# Altium integrated library Linear Technology Power Management System Supervisor, Monitor and Control.IntLib: 1611 symbols (part 10 of 100)
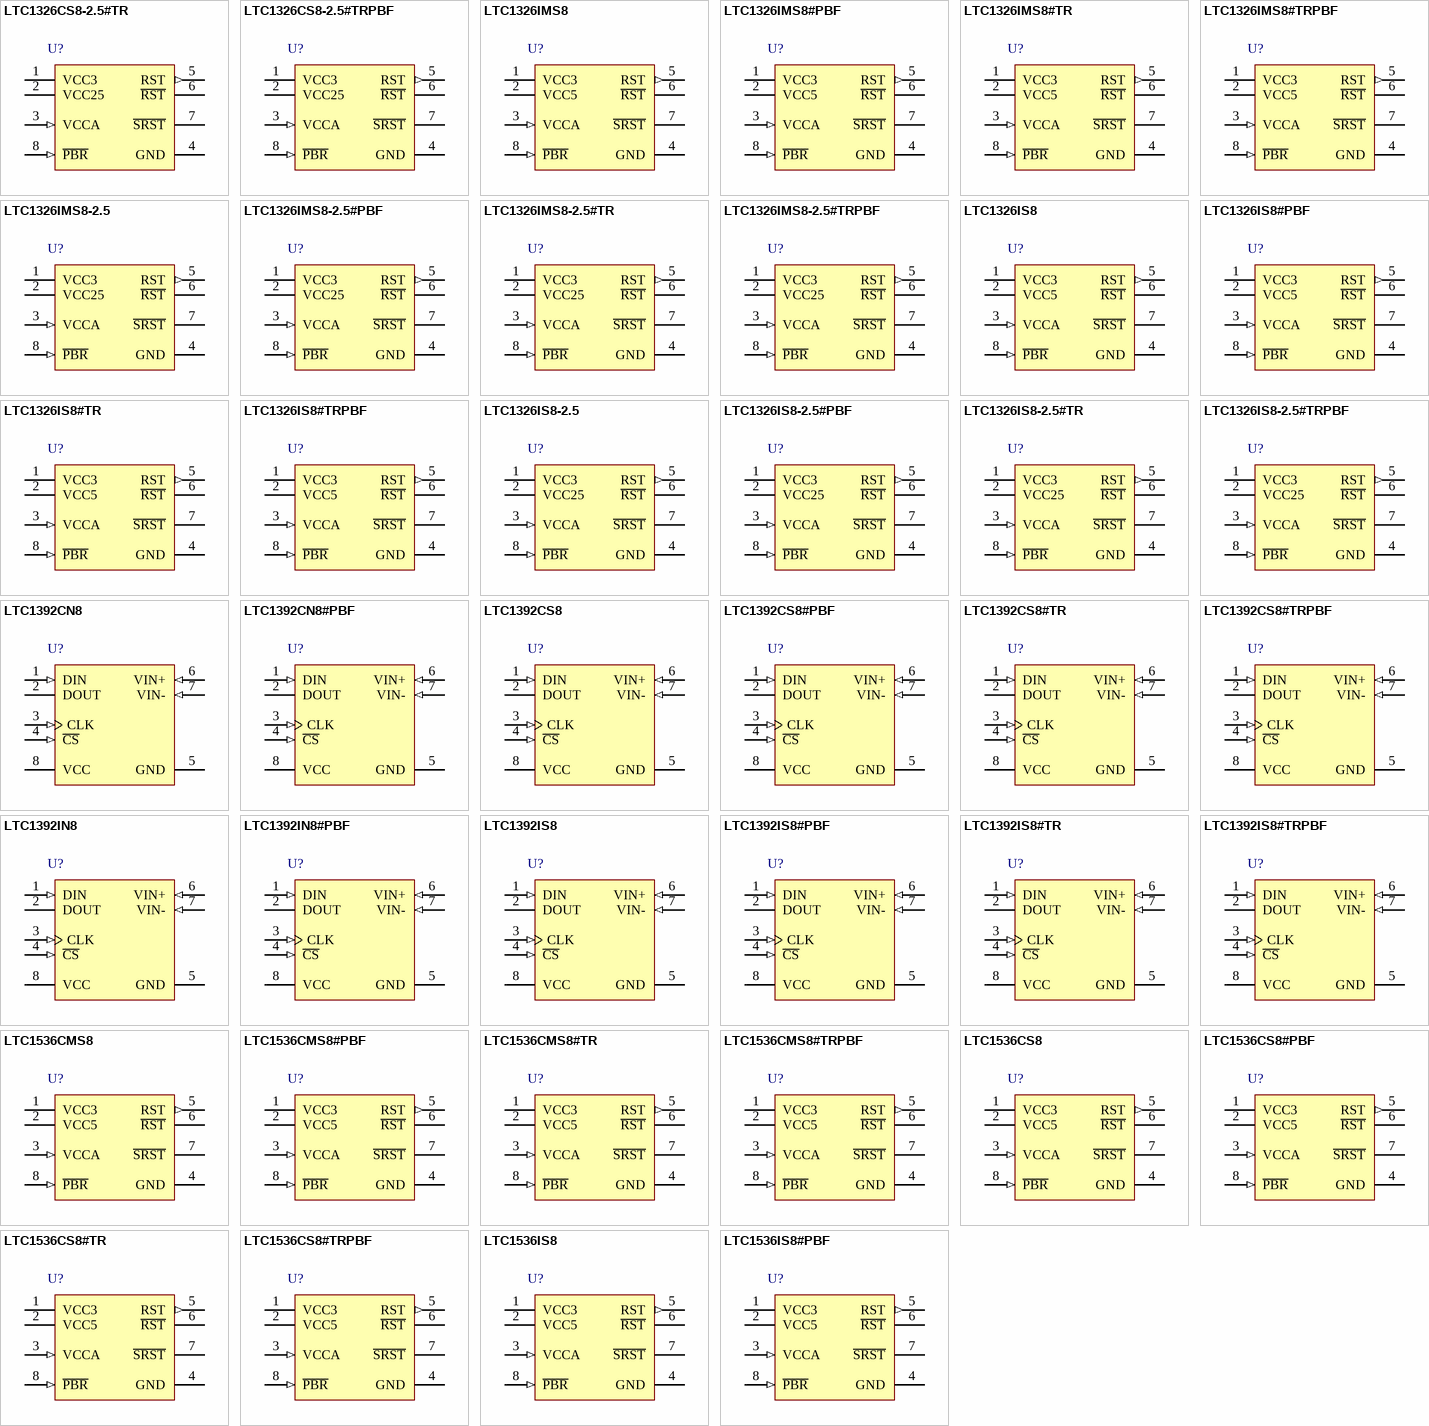
[diagram p54: symbols LTC1326CS8-2.5#TR to LTC1536IS8#PBF]

## LTC1326IS8-2.5
designator U?
Micropower Precision Triple Supply Monitor, 8-pin SOIC (S8-8), -40 to 85 degC; Manufacturer: Linear Technology; PartNumber: LTC1326IS8-2.5; Number of Supplies(#): 3; DatasheetVersion: Rev. C; PackageVersion: Rev. G, 03/2012; PackageReference: S8-8; PackageDescription: 8-Pin Plastic Small Outline (Narrow .150 Inch), Body 4.9 x 3.9 mm, Pitch 1.27 mm; Supplier 1: Digi-Key; Supplier Part Number 1: LTC1326IS8-2.5-ND; RoHS: FALSE; Mounting Technology: Surface Mount; ComponentLink1Description: Manufacturer URL; ComponentLink1URL: http://www.linear.com/; ComponentLink2Description: Datasheet; ComponentLink2URL: http://cds.linear.com/docs/en/datasheet/132625fc.pdf; ComponentLink3Description: Package Specification; ComponentLink3URL: http://cds.linear.com/docs/en/packaging/05081610_G_SO8.pdf
footprint LT-S8-8_N (SOIC, 8-Leads, Body 5x4mm, Pitch 1.27mm, IPC Medium Density)
footprint LT-S8-8_L (SOIC, 8-Leads, Body 5x4mm, Pitch 1.27mm, IPC High Density)
footprint LT-S8-8_M (SOIC, 8-Leads, Body 5x4mm, Pitch 1.27mm, IPC Low Density)
pins: 1 VCC3 (power) "3.3V Sense Input and Power Supply Pin for the IC. Bypass to ground with >= 0.1uF ceramic capacitor.", 2 VCC25 (power), 3 VCCA (in) "1V Sense, High Impedance Input. Can be used as a logic input with a 1V threshold. If unused, it can be tied to either VCC3 or VCC25.", 4 GND (power) "Ground.", 5 RST (out) "Reset Logic Output. Active high CMOS logic output, drives high to VCC3, buffered complement of R\S\T\. An external pull-down on the R\S\T\ pin will drive this pin high.", 6 ~{RST} (oc) "Reset Logic Output. Active low, open-drain logic output with weak pull-up to VCC3. Can be pulled up greater than VCC3 when interfacing to 5V logic. Asserted when one or more of the supplies are below trip thresholds and held (See Datasheet)", 7 ~{SRST} (oc) "Soft Reset. Active low, open-drain logic output with weak pull-up to VCC3. Can be pulled up greater than VCC3 when interfacing to 5V logic. Asserted for 100us after P\B\R\ is held low for less than 2 seconds and released.", 8 ~{PBR} (in)

## LTC1326IS8-2.5#PBF
designator U?
Micropower Precision Triple Supply Monitor, 8-pin SOIC (S8-8), -40 to 85 degC, Pb-Free; Manufacturer: Linear Technology; PartNumber: LTC1326IS8-2.5#PBF; Number of Supplies(#): 3; DatasheetVersion: Rev. C; PackageVersion: Rev. G, 03/2012; PackageReference: S8-8; PackageDescription: 8-Pin Plastic Small Outline (Narrow .150 Inch), Body 4.9 x 3.9 mm, Pitch 1.27 mm; Supplier 1: Digi-Key; Supplier Part Number 1: LTC1326IS8-2.5#PBF-ND; Supplier 2: Farnell; Supplier Part Number 2: 2295385; Supplier 3: Newark; Supplier Part Number 3: 56M0313; RoHS: TRUE; Mounting Technology: Surface Mount; ComponentLink1Description: Manufacturer URL; ComponentLink1URL: http://www.linear.com/; ComponentLink2Description: Datasheet; ComponentLink2URL: http://cds.linear.com/docs/en/datasheet/132625fc.pdf; ComponentLink3Description: Package Specification; ComponentLink3URL: http://cds.linear.com/docs/en/packaging/05081610_G_SO8.pdf
footprint LT-S8-8_N (SOIC, 8-Leads, Body 5x4mm, Pitch 1.27mm, IPC Medium Density)
footprint LT-S8-8_L (SOIC, 8-Leads, Body 5x4mm, Pitch 1.27mm, IPC High Density)
footprint LT-S8-8_M (SOIC, 8-Leads, Body 5x4mm, Pitch 1.27mm, IPC Low Density)
pins: 1 VCC3 (power) "3.3V Sense Input and Power Supply Pin for the IC. Bypass to ground with >= 0.1uF ceramic capacitor.", 2 VCC25 (power), 3 VCCA (in) "1V Sense, High Impedance Input. Can be used as a logic input with a 1V threshold. If unused, it can be tied to either VCC3 or VCC25.", 4 GND (power) "Ground.", 5 RST (out) "Reset Logic Output. Active high CMOS logic output, drives high to VCC3, buffered complement of R\S\T\. An external pull-down on the R\S\T\ pin will drive this pin high.", 6 ~{RST} (oc) "Reset Logic Output. Active low, open-drain logic output with weak pull-up to VCC3. Can be pulled up greater than VCC3 when interfacing to 5V logic. Asserted when one or more of the supplies are below trip thresholds and held (See Datasheet)", 7 ~{SRST} (oc) "Soft Reset. Active low, open-drain logic output with weak pull-up to VCC3. Can be pulled up greater than VCC3 when interfacing to 5V logic. Asserted for 100us after P\B\R\ is held low for less than 2 seconds and released.", 8 ~{PBR} (in)

## LTC1326IS8-2.5#TR
designator U?
Micropower Precision Triple Supply Monitor, 8-pin SOIC (S8-8), -40 to 85 degC, Tape and Reel; Manufacturer: Linear Technology; PartNumber: LTC1326IS8-2.5#TR; Number of Supplies(#): 3; DatasheetVersion: Rev. C; PackageVersion: Rev. G, 03/2012; PackageReference: S8-8; PackageDescription: 8-Pin Plastic Small Outline (Narrow .150 Inch), Body 4.9 x 3.9 mm, Pitch 1.27 mm; Supplier 1: Digi-Key; Supplier Part Number 1: LTC1326IS8-2.5#TR-ND; Packing: Tape and Reel; RoHS: FALSE; Mounting Technology: Surface Mount; ComponentLink1Description: Manufacturer URL; ComponentLink1URL: http://www.linear.com/; ComponentLink2Description: Datasheet; ComponentLink2URL: http://cds.linear.com/docs/en/datasheet/132625fc.pdf; ComponentLink3Description: Package Specification; ComponentLink3URL: http://cds.linear.com/docs/en/packaging/05081610_G_SO8.pdf
footprint LT-S8-8_N (SOIC, 8-Leads, Body 5x4mm, Pitch 1.27mm, IPC Medium Density)
footprint LT-S8-8_L (SOIC, 8-Leads, Body 5x4mm, Pitch 1.27mm, IPC High Density)
footprint LT-S8-8_M (SOIC, 8-Leads, Body 5x4mm, Pitch 1.27mm, IPC Low Density)
pins: 1 VCC3 (power) "3.3V Sense Input and Power Supply Pin for the IC. Bypass to ground with >= 0.1uF ceramic capacitor.", 2 VCC25 (power), 3 VCCA (in) "1V Sense, High Impedance Input. Can be used as a logic input with a 1V threshold. If unused, it can be tied to either VCC3 or VCC25.", 4 GND (power) "Ground.", 5 RST (out) "Reset Logic Output. Active high CMOS logic output, drives high to VCC3, buffered complement of R\S\T\. An external pull-down on the R\S\T\ pin will drive this pin high.", 6 ~{RST} (oc) "Reset Logic Output. Active low, open-drain logic output with weak pull-up to VCC3. Can be pulled up greater than VCC3 when interfacing to 5V logic. Asserted when one or more of the supplies are below trip thresholds and held (See Datasheet)", 7 ~{SRST} (oc) "Soft Reset. Active low, open-drain logic output with weak pull-up to VCC3. Can be pulled up greater than VCC3 when interfacing to 5V logic. Asserted for 100us after P\B\R\ is held low for less than 2 seconds and released.", 8 ~{PBR} (in)

## LTC1326IS8-2.5#TRPBF
designator U?
Micropower Precision Triple Supply Monitor, 8-pin SOIC (S8-8), -40 to 85 degC, Pb-Free, Tape and Reel; Manufacturer: Linear Technology; PartNumber: LTC1326IS8-2.5#TRPBF; Number of Supplies(#): 3; DatasheetVersion: Rev. C; PackageVersion: Rev. G, 03/2012; PackageReference: S8-8; PackageDescription: 8-Pin Plastic Small Outline (Narrow .150 Inch), Body 4.9 x 3.9 mm, Pitch 1.27 mm; Supplier 1: Digi-Key; Supplier Part Number 1: LTC1326IS8-2.5#TRPBF-ND; Packing: Tape and Reel; RoHS: TRUE; Mounting Technology: Surface Mount; ComponentLink1Description: Manufacturer URL; ComponentLink1URL: http://www.linear.com/; ComponentLink2Description: Datasheet; ComponentLink2URL: http://cds.linear.com/docs/en/datasheet/132625fc.pdf; ComponentLink3Description: Package Specification; ComponentLink3URL: http://cds.linear.com/docs/en/packaging/05081610_G_SO8.pdf
footprint LT-S8-8_N (SOIC, 8-Leads, Body 5x4mm, Pitch 1.27mm, IPC Medium Density)
footprint LT-S8-8_L (SOIC, 8-Leads, Body 5x4mm, Pitch 1.27mm, IPC High Density)
footprint LT-S8-8_M (SOIC, 8-Leads, Body 5x4mm, Pitch 1.27mm, IPC Low Density)
pins: 1 VCC3 (power) "3.3V Sense Input and Power Supply Pin for the IC. Bypass to ground with >= 0.1uF ceramic capacitor.", 2 VCC25 (power), 3 VCCA (in) "1V Sense, High Impedance Input. Can be used as a logic input with a 1V threshold. If unused, it can be tied to either VCC3 or VCC25.", 4 GND (power) "Ground.", 5 RST (out) "Reset Logic Output. Active high CMOS logic output, drives high to VCC3, buffered complement of R\S\T\. An external pull-down on the R\S\T\ pin will drive this pin high.", 6 ~{RST} (oc) "Reset Logic Output. Active low, open-drain logic output with weak pull-up to VCC3. Can be pulled up greater than VCC3 when interfacing to 5V logic. Asserted when one or more of the supplies are below trip thresholds and held (See Datasheet)", 7 ~{SRST} (oc) "Soft Reset. Active low, open-drain logic output with weak pull-up to VCC3. Can be pulled up greater than VCC3 when interfacing to 5V logic. Asserted for 100us after P\B\R\ is held low for less than 2 seconds and released.", 8 ~{PBR} (in)

## LTC1392CN8
designator U?
Micropower Temperature, Power Supply and Differential Voltage Monitot, 8-pin DIP (N8-8), 0 to 70 degC; Manufacturer: Linear Technology; PartNumber: LTC1392CN8; Number of Supplies(#): 1; PackageVersion: Rev. I, 07/2011; PackageReference: N8-8; PackageDescription: 8-Pin PDIP, Body 10.16 x 6.48 mm, Pitch 2.54 mm; Supplier 1: Digi-Key; Supplier Part Number 1: LTC1392CN8-ND; RoHS: FALSE; Mounting Technology: Through Hole; ComponentLink1Description: Manufacturer URL; ComponentLink1URL: http://www.linear.com/; ComponentLink2Description: Datasheet; ComponentLink2URL: http://cds.linear.com/docs/en/datasheet/1392f.pdf; ComponentLink3Description: Package Specification; ComponentLink3URL: http://www.linear.com/docs/en/packaging/05081510_I_N8.pdf
footprint LT-N8-8 (DIP, 8-Leads, Body 10.15x6.85mm, Pitch 2.54mm)
pins: 1 DIN (in) "Digital Input. The A/D configuration word is shifted into this input.", 2 DOUT (hiz) "Digital Output. The A/D result is shifted out of this output.", 3 CLK (in) "Shift Clock. This clock synchronizes the serial data.", 4 ~{CS} (in) "Chip Select Input. A logic low on this input enables the LTC1392.", 5 GND (power) "Ground Pin. GND should be tied directly to an analog ground plane.", 6 VIN+ (in) "Positive Analog Differential Input. The pin can be used as a single-ended input by grounding -VIN.", 7 VIN- (in) "Negative Analog Differential Input. The input must be free from noise.", 8 VCC (power) "Positive Supply. This supply must be kept free from noise and ripple by bypassing directly to the ground plane."

## LTC1392CN8#PBF
designator U?
Micropower Temperature, Power Supply and Differential Voltage Monitot, 8-pin DIP (N8-8), 0 to 70 degC, Pb-Free; Manufacturer: Linear Technology; PartNumber: LTC1392CN8#PBF; Number of Supplies(#): 1; PackageVersion: Rev. I, 07/2011; PackageReference: N8-8; PackageDescription: 8-Pin PDIP, Body 10.16 x 6.48 mm, Pitch 2.54 mm; Supplier 1: Digi-Key; Supplier Part Number 1: LTC1392CN8#PBF-ND; RoHS: TRUE; Mounting Technology: Through Hole; ComponentLink1Description: Manufacturer URL; ComponentLink1URL: http://www.linear.com/; ComponentLink2Description: Datasheet; ComponentLink2URL: http://cds.linear.com/docs/en/datasheet/1392f.pdf; ComponentLink3Description: Package Specification; ComponentLink3URL: http://www.linear.com/docs/en/packaging/05081510_I_N8.pdf
footprint LT-N8-8 (DIP, 8-Leads, Body 10.15x6.85mm, Pitch 2.54mm)
pins: 1 DIN (in) "Digital Input. The A/D configuration word is shifted into this input.", 2 DOUT (hiz) "Digital Output. The A/D result is shifted out of this output.", 3 CLK (in) "Shift Clock. This clock synchronizes the serial data.", 4 ~{CS} (in) "Chip Select Input. A logic low on this input enables the LTC1392.", 5 GND (power) "Ground Pin. GND should be tied directly to an analog ground plane.", 6 VIN+ (in) "Positive Analog Differential Input. The pin can be used as a single-ended input by grounding -VIN.", 7 VIN- (in) "Negative Analog Differential Input. The input must be free from noise.", 8 VCC (power) "Positive Supply. This supply must be kept free from noise and ripple by bypassing directly to the ground plane."

## LTC1392CS8
designator U?
Micropower Temperature, Power Supply and Differential Voltage Monitot, 8-pin SOIC (S8-8), 0 to 70 degC; Manufacturer: Linear Technology; PartNumber: LTC1392CS8; Number of Supplies(#): 1; PackageVersion: Rev. G, 03/2012; PackageReference: S8-8; PackageDescription: 8-Pin Plastic Small Outline (Narrow .150 Inch), Body 4.9 x 3.9 mm, Pitch 1.27 mm; Supplier 1: Digi-Key; Supplier Part Number 1: LTC1392CS8-ND; Supplier 2: Newark; Supplier Part Number 2: 56M0643; RoHS: FALSE; Mounting Technology: Surface Mount; ComponentLink1Description: Manufacturer URL; ComponentLink1URL: http://www.linear.com/; ComponentLink2Description: Datasheet; ComponentLink2URL: http://cds.linear.com/docs/en/datasheet/1392f.pdf; ComponentLink3Description: Package Specification; ComponentLink3URL: http://cds.linear.com/docs/en/packaging/05081610_G_SO8.pdf
footprint LT-S8-8_N (SOIC, 8-Leads, Body 5x4mm, Pitch 1.27mm, IPC Medium Density)
footprint LT-S8-8_L (SOIC, 8-Leads, Body 5x4mm, Pitch 1.27mm, IPC High Density)
footprint LT-S8-8_M (SOIC, 8-Leads, Body 5x4mm, Pitch 1.27mm, IPC Low Density)
pins: 1 DIN (in) "Digital Input. The A/D configuration word is shifted into this input.", 2 DOUT (hiz) "Digital Output. The A/D result is shifted out of this output.", 3 CLK (in) "Shift Clock. This clock synchronizes the serial data.", 4 ~{CS} (in) "Chip Select Input. A logic low on this input enables the LTC1392.", 5 GND (power) "Ground Pin. GND should be tied directly to an analog ground plane.", 6 VIN+ (in) "Positive Analog Differential Input. The pin can be used as a single-ended input by grounding -VIN.", 7 VIN- (in) "Negative Analog Differential Input. The input must be free from noise.", 8 VCC (power) "Positive Supply. This supply must be kept free from noise and ripple by bypassing directly to the ground plane."

## LTC1392CS8#PBF
designator U?
Micropower Temperature, Power Supply and Differential Voltage Monitot, 8-pin SOIC (S8-8), 0 to 70 degC, Pb-Free; Manufacturer: Linear Technology; PartNumber: LTC1392CS8#PBF; Number of Supplies(#): 1; PackageVersion: Rev. G, 03/2012; PackageReference: S8-8; PackageDescription: 8-Pin Plastic Small Outline (Narrow .150 Inch), Body 4.9 x 3.9 mm, Pitch 1.27 mm; Supplier 1: Digi-Key; Supplier Part Number 1: LTC1392CS8#PBF-ND; Supplier 2: Farnell; Supplier Part Number 2: 2295387; Supplier 3: Newark; Supplier Part Number 3: 56M0644; RoHS: TRUE; Mounting Technology: Surface Mount; ComponentLink1Description: Manufacturer URL; ComponentLink1URL: http://www.linear.com/; ComponentLink2Description: Datasheet; ComponentLink2URL: http://cds.linear.com/docs/en/datasheet/1392f.pdf; ComponentLink3Description: Package Specification; ComponentLink3URL: http://cds.linear.com/docs/en/packaging/05081610_G_SO8.pdf
footprint LT-S8-8_N (SOIC, 8-Leads, Body 5x4mm, Pitch 1.27mm, IPC Medium Density)
footprint LT-S8-8_L (SOIC, 8-Leads, Body 5x4mm, Pitch 1.27mm, IPC High Density)
footprint LT-S8-8_M (SOIC, 8-Leads, Body 5x4mm, Pitch 1.27mm, IPC Low Density)
pins: 1 DIN (in) "Digital Input. The A/D configuration word is shifted into this input.", 2 DOUT (hiz) "Digital Output. The A/D result is shifted out of this output.", 3 CLK (in) "Shift Clock. This clock synchronizes the serial data.", 4 ~{CS} (in) "Chip Select Input. A logic low on this input enables the LTC1392.", 5 GND (power) "Ground Pin. GND should be tied directly to an analog ground plane.", 6 VIN+ (in) "Positive Analog Differential Input. The pin can be used as a single-ended input by grounding -VIN.", 7 VIN- (in) "Negative Analog Differential Input. The input must be free from noise.", 8 VCC (power) "Positive Supply. This supply must be kept free from noise and ripple by bypassing directly to the ground plane."

## LTC1392CS8#TR
designator U?
Micropower Temperature, Power Supply and Differential Voltage Monitot, 8-pin SOIC (S8-8), 0 to 70 degC, Tape and Reel; Manufacturer: Linear Technology; PartNumber: LTC1392CS8#TR; Number of Supplies(#): 1; PackageVersion: Rev. G, 03/2012; PackageReference: S8-8; PackageDescription: 8-Pin Plastic Small Outline (Narrow .150 Inch), Body 4.9 x 3.9 mm, Pitch 1.27 mm; Supplier 1: Digi-Key; Supplier Part Number 1: LTC1392CS8#TR-ND; Supplier 2: Newark; Supplier Part Number 2: 56M0645; Packing: Tape and Reel; RoHS: FALSE; Mounting Technology: Surface Mount; ComponentLink1Description: Manufacturer URL; ComponentLink1URL: http://www.linear.com/; ComponentLink2Description: Datasheet; ComponentLink2URL: http://cds.linear.com/docs/en/datasheet/1392f.pdf; ComponentLink3Description: Package Specification; ComponentLink3URL: http://cds.linear.com/docs/en/packaging/05081610_G_SO8.pdf
footprint LT-S8-8_N (SOIC, 8-Leads, Body 5x4mm, Pitch 1.27mm, IPC Medium Density)
footprint LT-S8-8_L (SOIC, 8-Leads, Body 5x4mm, Pitch 1.27mm, IPC High Density)
footprint LT-S8-8_M (SOIC, 8-Leads, Body 5x4mm, Pitch 1.27mm, IPC Low Density)
pins: 1 DIN (in) "Digital Input. The A/D configuration word is shifted into this input.", 2 DOUT (hiz) "Digital Output. The A/D result is shifted out of this output.", 3 CLK (in) "Shift Clock. This clock synchronizes the serial data.", 4 ~{CS} (in) "Chip Select Input. A logic low on this input enables the LTC1392.", 5 GND (power) "Ground Pin. GND should be tied directly to an analog ground plane.", 6 VIN+ (in) "Positive Analog Differential Input. The pin can be used as a single-ended input by grounding -VIN.", 7 VIN- (in) "Negative Analog Differential Input. The input must be free from noise.", 8 VCC (power) "Positive Supply. This supply must be kept free from noise and ripple by bypassing directly to the ground plane."

## LTC1392CS8#TRPBF
designator U?
Micropower Temperature, Power Supply and Differential Voltage Monitot, 8-pin SOIC (S8-8), 0 to 70 degC, Pb-Free, Tape and Reel; Manufacturer: Linear Technology; PartNumber: LTC1392CS8#TRPBF; Number of Supplies(#): 1; PackageVersion: Rev. G, 03/2012; PackageReference: S8-8; PackageDescription: 8-Pin Plastic Small Outline (Narrow .150 Inch), Body 4.9 x 3.9 mm, Pitch 1.27 mm; Supplier 1: Digi-Key; Supplier Part Number 1: LTC1392CS8#TRPBF-ND; Packing: Tape and Reel; RoHS: TRUE; Mounting Technology: Surface Mount; ComponentLink1Description: Manufacturer URL; ComponentLink1URL: http://www.linear.com/; ComponentLink2Description: Datasheet; ComponentLink2URL: http://cds.linear.com/docs/en/datasheet/1392f.pdf; ComponentLink3Description: Package Specification; ComponentLink3URL: http://cds.linear.com/docs/en/packaging/05081610_G_SO8.pdf
footprint LT-S8-8_N (SOIC, 8-Leads, Body 5x4mm, Pitch 1.27mm, IPC Medium Density)
footprint LT-S8-8_L (SOIC, 8-Leads, Body 5x4mm, Pitch 1.27mm, IPC High Density)
footprint LT-S8-8_M (SOIC, 8-Leads, Body 5x4mm, Pitch 1.27mm, IPC Low Density)
pins: 1 DIN (in) "Digital Input. The A/D configuration word is shifted into this input.", 2 DOUT (hiz) "Digital Output. The A/D result is shifted out of this output.", 3 CLK (in) "Shift Clock. This clock synchronizes the serial data.", 4 ~{CS} (in) "Chip Select Input. A logic low on this input enables the LTC1392.", 5 GND (power) "Ground Pin. GND should be tied directly to an analog ground plane.", 6 VIN+ (in) "Positive Analog Differential Input. The pin can be used as a single-ended input by grounding -VIN.", 7 VIN- (in) "Negative Analog Differential Input. The input must be free from noise.", 8 VCC (power) "Positive Supply. This supply must be kept free from noise and ripple by bypassing directly to the ground plane."

## LTC1392IN8
designator U?
Micropower Temperature, Power Supply and Differential Voltage Monitot, 8-pin DIP (N8-8), -40 to 85 degC; Manufacturer: Linear Technology; PartNumber: LTC1392IN8; Number of Supplies(#): 1; PackageVersion: Rev. I, 07/2011; PackageReference: N8-8; PackageDescription: 8-Pin PDIP, Body 10.16 x 6.48 mm, Pitch 2.54 mm; Supplier 1: Digi-Key; Supplier Part Number 1: LTC1392IN8-ND; RoHS: FALSE; Mounting Technology: Through Hole; ComponentLink1Description: Manufacturer URL; ComponentLink1URL: http://www.linear.com/; ComponentLink2Description: Datasheet; ComponentLink2URL: http://cds.linear.com/docs/en/datasheet/1392f.pdf; ComponentLink3Description: Package Specification; ComponentLink3URL: http://www.linear.com/docs/en/packaging/05081510_I_N8.pdf
footprint LT-N8-8 (DIP, 8-Leads, Body 10.15x6.85mm, Pitch 2.54mm)
pins: 1 DIN (in) "Digital Input. The A/D configuration word is shifted into this input.", 2 DOUT (hiz) "Digital Output. The A/D result is shifted out of this output.", 3 CLK (in) "Shift Clock. This clock synchronizes the serial data.", 4 ~{CS} (in) "Chip Select Input. A logic low on this input enables the LTC1392.", 5 GND (power) "Ground Pin. GND should be tied directly to an analog ground plane.", 6 VIN+ (in) "Positive Analog Differential Input. The pin can be used as a single-ended input by grounding -VIN.", 7 VIN- (in) "Negative Analog Differential Input. The input must be free from noise.", 8 VCC (power) "Positive Supply. This supply must be kept free from noise and ripple by bypassing directly to the ground plane."

## LTC1392IN8#PBF
designator U?
Micropower Temperature, Power Supply and Differential Voltage Monitot, 8-pin DIP (N8-8), -40 to 85 degC, Pb-Free; Manufacturer: Linear Technology; PartNumber: LTC1392IN8#PBF; Number of Supplies(#): 1; PackageVersion: Rev. I, 07/2011; PackageReference: N8-8; PackageDescription: 8-Pin PDIP, Body 10.16 x 6.48 mm, Pitch 2.54 mm; Supplier 1: Digi-Key; Supplier Part Number 1: LTC1392IN8#PBF-ND; RoHS: TRUE; Mounting Technology: Through Hole; ComponentLink1Description: Manufacturer URL; ComponentLink1URL: http://www.linear.com/; ComponentLink2Description: Datasheet; ComponentLink2URL: http://cds.linear.com/docs/en/datasheet/1392f.pdf; ComponentLink3Description: Package Specification; ComponentLink3URL: http://www.linear.com/docs/en/packaging/05081510_I_N8.pdf
footprint LT-N8-8 (DIP, 8-Leads, Body 10.15x6.85mm, Pitch 2.54mm)
pins: 1 DIN (in) "Digital Input. The A/D configuration word is shifted into this input.", 2 DOUT (hiz) "Digital Output. The A/D result is shifted out of this output.", 3 CLK (in) "Shift Clock. This clock synchronizes the serial data.", 4 ~{CS} (in) "Chip Select Input. A logic low on this input enables the LTC1392.", 5 GND (power) "Ground Pin. GND should be tied directly to an analog ground plane.", 6 VIN+ (in) "Positive Analog Differential Input. The pin can be used as a single-ended input by grounding -VIN.", 7 VIN- (in) "Negative Analog Differential Input. The input must be free from noise.", 8 VCC (power) "Positive Supply. This supply must be kept free from noise and ripple by bypassing directly to the ground plane."

## LTC1392IS8
designator U?
Micropower Temperature, Power Supply and Differential Voltage Monitot, 8-pin SOIC (S8-8), -40 to 85 degC; Manufacturer: Linear Technology; PartNumber: LTC1392IS8; Number of Supplies(#): 1; PackageVersion: Rev. G, 03/2012; PackageReference: S8-8; PackageDescription: 8-Pin Plastic Small Outline (Narrow .150 Inch), Body 4.9 x 3.9 mm, Pitch 1.27 mm; Supplier 1: Digi-Key; Supplier Part Number 1: LTC1392IS8-ND; RoHS: FALSE; Mounting Technology: Surface Mount; ComponentLink1Description: Manufacturer URL; ComponentLink1URL: http://www.linear.com/; ComponentLink2Description: Datasheet; ComponentLink2URL: http://cds.linear.com/docs/en/datasheet/1392f.pdf; ComponentLink3Description: Package Specification; ComponentLink3URL: http://cds.linear.com/docs/en/packaging/05081610_G_SO8.pdf
footprint LT-S8-8_N (SOIC, 8-Leads, Body 5x4mm, Pitch 1.27mm, IPC Medium Density)
footprint LT-S8-8_L (SOIC, 8-Leads, Body 5x4mm, Pitch 1.27mm, IPC High Density)
footprint LT-S8-8_M (SOIC, 8-Leads, Body 5x4mm, Pitch 1.27mm, IPC Low Density)
pins: 1 DIN (in) "Digital Input. The A/D configuration word is shifted into this input.", 2 DOUT (hiz) "Digital Output. The A/D result is shifted out of this output.", 3 CLK (in) "Shift Clock. This clock synchronizes the serial data.", 4 ~{CS} (in) "Chip Select Input. A logic low on this input enables the LTC1392.", 5 GND (power) "Ground Pin. GND should be tied directly to an analog ground plane.", 6 VIN+ (in) "Positive Analog Differential Input. The pin can be used as a single-ended input by grounding -VIN.", 7 VIN- (in) "Negative Analog Differential Input. The input must be free from noise.", 8 VCC (power) "Positive Supply. This supply must be kept free from noise and ripple by bypassing directly to the ground plane."

## LTC1392IS8#PBF
designator U?
Micropower Temperature, Power Supply and Differential Voltage Monitot, 8-pin SOIC (S8-8), -40 to 85 degC, Pb-Free; Manufacturer: Linear Technology; PartNumber: LTC1392IS8#PBF; Number of Supplies(#): 1; PackageVersion: Rev. G, 03/2012; PackageReference: S8-8; PackageDescription: 8-Pin Plastic Small Outline (Narrow .150 Inch), Body 4.9 x 3.9 mm, Pitch 1.27 mm; Supplier 1: Digi-Key; Supplier Part Number 1: LTC1392IS8#PBF-ND; RoHS: TRUE; Mounting Technology: Surface Mount; ComponentLink1Description: Manufacturer URL; ComponentLink1URL: http://www.linear.com/; ComponentLink2Description: Datasheet; ComponentLink2URL: http://cds.linear.com/docs/en/datasheet/1392f.pdf; ComponentLink3Description: Package Specification; ComponentLink3URL: http://cds.linear.com/docs/en/packaging/05081610_G_SO8.pdf
footprint LT-S8-8_N (SOIC, 8-Leads, Body 5x4mm, Pitch 1.27mm, IPC Medium Density)
footprint LT-S8-8_L (SOIC, 8-Leads, Body 5x4mm, Pitch 1.27mm, IPC High Density)
footprint LT-S8-8_M (SOIC, 8-Leads, Body 5x4mm, Pitch 1.27mm, IPC Low Density)
pins: 1 DIN (in) "Digital Input. The A/D configuration word is shifted into this input.", 2 DOUT (hiz) "Digital Output. The A/D result is shifted out of this output.", 3 CLK (in) "Shift Clock. This clock synchronizes the serial data.", 4 ~{CS} (in) "Chip Select Input. A logic low on this input enables the LTC1392.", 5 GND (power) "Ground Pin. GND should be tied directly to an analog ground plane.", 6 VIN+ (in) "Positive Analog Differential Input. The pin can be used as a single-ended input by grounding -VIN.", 7 VIN- (in) "Negative Analog Differential Input. The input must be free from noise.", 8 VCC (power) "Positive Supply. This supply must be kept free from noise and ripple by bypassing directly to the ground plane."

## LTC1392IS8#TR
designator U?
Micropower Temperature, Power Supply and Differential Voltage Monitot, 8-pin SOIC (S8-8), -40 to 85 degC, Tape and Reel; Manufacturer: Linear Technology; PartNumber: LTC1392IS8#TR; Number of Supplies(#): 1; PackageVersion: Rev. G, 03/2012; PackageReference: S8-8; PackageDescription: 8-Pin Plastic Small Outline (Narrow .150 Inch), Body 4.9 x 3.9 mm, Pitch 1.27 mm; Supplier 1: Digi-Key; Supplier Part Number 1: LTC1392IS8#TR-ND; Packing: Tape and Reel; RoHS: FALSE; Mounting Technology: Surface Mount; ComponentLink1Description: Manufacturer URL; ComponentLink1URL: http://www.linear.com/; ComponentLink2Description: Datasheet; ComponentLink2URL: http://cds.linear.com/docs/en/datasheet/1392f.pdf; ComponentLink3Description: Package Specification; ComponentLink3URL: http://cds.linear.com/docs/en/packaging/05081610_G_SO8.pdf
footprint LT-S8-8_N (SOIC, 8-Leads, Body 5x4mm, Pitch 1.27mm, IPC Medium Density)
footprint LT-S8-8_L (SOIC, 8-Leads, Body 5x4mm, Pitch 1.27mm, IPC High Density)
footprint LT-S8-8_M (SOIC, 8-Leads, Body 5x4mm, Pitch 1.27mm, IPC Low Density)
pins: 1 DIN (in) "Digital Input. The A/D configuration word is shifted into this input.", 2 DOUT (hiz) "Digital Output. The A/D result is shifted out of this output.", 3 CLK (in) "Shift Clock. This clock synchronizes the serial data.", 4 ~{CS} (in) "Chip Select Input. A logic low on this input enables the LTC1392.", 5 GND (power) "Ground Pin. GND should be tied directly to an analog ground plane.", 6 VIN+ (in) "Positive Analog Differential Input. The pin can be used as a single-ended input by grounding -VIN.", 7 VIN- (in) "Negative Analog Differential Input. The input must be free from noise.", 8 VCC (power) "Positive Supply. This supply must be kept free from noise and ripple by bypassing directly to the ground plane."

## LTC1392IS8#TRPBF
designator U?
Micropower Temperature, Power Supply and Differential Voltage Monitot, 8-pin SOIC (S8-8), -40 to 85 degC, Pb-Free, Tape and Reel; Manufacturer: Linear Technology; PartNumber: LTC1392IS8#TRPBF; Number of Supplies(#): 1; PackageVersion: Rev. G, 03/2012; PackageReference: S8-8; PackageDescription: 8-Pin Plastic Small Outline (Narrow .150 Inch), Body 4.9 x 3.9 mm, Pitch 1.27 mm; Supplier 1: Digi-Key; Supplier Part Number 1: LTC1392IS8#TRPBF-ND; Supplier 2: Newark; Supplier Part Number 2: 56M0652; Packing: Tape and Reel; RoHS: TRUE; Mounting Technology: Surface Mount; ComponentLink1Description: Manufacturer URL; ComponentLink1URL: http://www.linear.com/; ComponentLink2Description: Datasheet; ComponentLink2URL: http://cds.linear.com/docs/en/datasheet/1392f.pdf; ComponentLink3Description: Package Specification; ComponentLink3URL: http://cds.linear.com/docs/en/packaging/05081610_G_SO8.pdf
footprint LT-S8-8_N (SOIC, 8-Leads, Body 5x4mm, Pitch 1.27mm, IPC Medium Density)
footprint LT-S8-8_L (SOIC, 8-Leads, Body 5x4mm, Pitch 1.27mm, IPC High Density)
footprint LT-S8-8_M (SOIC, 8-Leads, Body 5x4mm, Pitch 1.27mm, IPC Low Density)
pins: 1 DIN (in) "Digital Input. The A/D configuration word is shifted into this input.", 2 DOUT (hiz) "Digital Output. The A/D result is shifted out of this output.", 3 CLK (in) "Shift Clock. This clock synchronizes the serial data.", 4 ~{CS} (in) "Chip Select Input. A logic low on this input enables the LTC1392.", 5 GND (power) "Ground Pin. GND should be tied directly to an analog ground plane.", 6 VIN+ (in) "Positive Analog Differential Input. The pin can be used as a single-ended input by grounding -VIN.", 7 VIN- (in) "Negative Analog Differential Input. The input must be free from noise.", 8 VCC (power) "Positive Supply. This supply must be kept free from noise and ripple by bypassing directly to the ground plane."

## LTC1536CMS8
designator U?
Precision Triple Supply Monitor for PCI Application, 8-pin SOP (MS8-8), 0 to 70 degC; Manufacturer: Linear Technology; PartNumber: LTC1536CMS8; Number of Supplies(#): 3; DatasheetVersion: Rev. A; PackageVersion: Rev. G, 03/2012; PackageReference: MS8-8; PackageDescription: 8-Pin Plastic MSOP, Body 3 x 3 mm, Pitch 0.65 mm; RoHS: FALSE; Mounting Technology: Surface Mount; ComponentLink1Description: Manufacturer URL; ComponentLink1URL: http://www.linear.com/; ComponentLink2Description: Datasheet; ComponentLink2URL: http://cds.linear.com/docs/en/datasheet/1536fa.pdf; ComponentLink3Description: Package Specification; ComponentLink3URL: http://cds.linear.com/docs/en/packaging/05081660_G_MS8.pdf
footprint LT-MS8-8_N (SOP, 8-Leads, Body 3.1x3.1mm, Pitch 0.65mm, IPC Medium Density)
footprint LT-MS8-8_L (SOP, 8-Leads, Body 3.1x3.1mm, Pitch 0.65mm, IPC High Density)
footprint LT-MS8-8_M (SOP, 8-Leads, Body 3.1x3.1mm, Pitch 0.65mm, IPC Low Density)
pins: 1 VCC3 (power), 2 VCC5 (power), 3 VCCA (in), 4 GND (power) "Ground.", 5 RST (out), 6 ~{RST} (oc), 7 ~{SRST} (oc), 8 ~{PBR} (in)

## LTC1536CMS8#PBF
designator U?
Precision Triple Supply Monitor for PCI Application, 8-pin SOP (MS8-8), 0 to 70 degC, Pb-Free; Manufacturer: Linear Technology; PartNumber: LTC1536CMS8#PBF; Number of Supplies(#): 3; DatasheetVersion: Rev. A; PackageVersion: Rev. G, 03/2012; PackageReference: MS8-8; PackageDescription: 8-Pin Plastic MSOP, Body 3 x 3 mm, Pitch 0.65 mm; Supplier 1: Digi-Key; Supplier Part Number 1: LTC1536CMS8#PBF-ND; Supplier 2: Newark; Supplier Part Number 2: 56M1829; RoHS: TRUE; Mounting Technology: Surface Mount; ComponentLink1Description: Manufacturer URL; ComponentLink1URL: http://www.linear.com/; ComponentLink2Description: Datasheet; ComponentLink2URL: http://cds.linear.com/docs/en/datasheet/1536fa.pdf; ComponentLink3Description: Package Specification; ComponentLink3URL: http://cds.linear.com/docs/en/packaging/05081660_G_MS8.pdf
footprint LT-MS8-8_N (SOP, 8-Leads, Body 3.1x3.1mm, Pitch 0.65mm, IPC Medium Density)
footprint LT-MS8-8_L (SOP, 8-Leads, Body 3.1x3.1mm, Pitch 0.65mm, IPC High Density)
footprint LT-MS8-8_M (SOP, 8-Leads, Body 3.1x3.1mm, Pitch 0.65mm, IPC Low Density)
pins: 1 VCC3 (power), 2 VCC5 (power), 3 VCCA (in), 4 GND (power) "Ground.", 5 RST (out), 6 ~{RST} (oc), 7 ~{SRST} (oc), 8 ~{PBR} (in)

## LTC1536CMS8#TR
designator U?
Precision Triple Supply Monitor for PCI Application, 8-pin SOP (MS8-8), 0 to 70 degC, Tape and Reel; Manufacturer: Linear Technology; PartNumber: LTC1536CMS8#TR; Number of Supplies(#): 3; DatasheetVersion: Rev. A; PackageVersion: Rev. G, 03/2012; PackageReference: MS8-8; PackageDescription: 8-Pin Plastic MSOP, Body 3 x 3 mm, Pitch 0.65 mm; Supplier 1: Digi-Key; Supplier Part Number 1: LTC1536CMS8#TR-ND; Packing: Tape and Reel; RoHS: FALSE; Mounting Technology: Surface Mount; ComponentLink1Description: Manufacturer URL; ComponentLink1URL: http://www.linear.com/; ComponentLink2Description: Datasheet; ComponentLink2URL: http://cds.linear.com/docs/en/datasheet/1536fa.pdf; ComponentLink3Description: Package Specification; ComponentLink3URL: http://cds.linear.com/docs/en/packaging/05081660_G_MS8.pdf
footprint LT-MS8-8_N (SOP, 8-Leads, Body 3.1x3.1mm, Pitch 0.65mm, IPC Medium Density)
footprint LT-MS8-8_L (SOP, 8-Leads, Body 3.1x3.1mm, Pitch 0.65mm, IPC High Density)
footprint LT-MS8-8_M (SOP, 8-Leads, Body 3.1x3.1mm, Pitch 0.65mm, IPC Low Density)
pins: 1 VCC3 (power), 2 VCC5 (power), 3 VCCA (in), 4 GND (power) "Ground.", 5 RST (out), 6 ~{RST} (oc), 7 ~{SRST} (oc), 8 ~{PBR} (in)

## LTC1536CMS8#TRPBF
designator U?
Precision Triple Supply Monitor for PCI Application, 8-pin SOP (MS8-8), 0 to 70 degC, Pb-Free, Tape and Reel; Manufacturer: Linear Technology; PartNumber: LTC1536CMS8#TRPBF; Number of Supplies(#): 3; DatasheetVersion: Rev. A; PackageVersion: Rev. G, 03/2012; PackageReference: MS8-8; PackageDescription: 8-Pin Plastic MSOP, Body 3 x 3 mm, Pitch 0.65 mm; Supplier 1: Digi-Key; Supplier Part Number 1: LTC1536CMS8#TRPBF-ND; Packing: Tape and Reel; RoHS: TRUE; Mounting Technology: Surface Mount; ComponentLink1Description: Manufacturer URL; ComponentLink1URL: http://www.linear.com/; ComponentLink2Description: Datasheet; ComponentLink2URL: http://cds.linear.com/docs/en/datasheet/1536fa.pdf; ComponentLink3Description: Package Specification; ComponentLink3URL: http://cds.linear.com/docs/en/packaging/05081660_G_MS8.pdf
footprint LT-MS8-8_N (SOP, 8-Leads, Body 3.1x3.1mm, Pitch 0.65mm, IPC Medium Density)
footprint LT-MS8-8_L (SOP, 8-Leads, Body 3.1x3.1mm, Pitch 0.65mm, IPC High Density)
footprint LT-MS8-8_M (SOP, 8-Leads, Body 3.1x3.1mm, Pitch 0.65mm, IPC Low Density)
pins: 1 VCC3 (power), 2 VCC5 (power), 3 VCCA (in), 4 GND (power) "Ground.", 5 RST (out), 6 ~{RST} (oc), 7 ~{SRST} (oc), 8 ~{PBR} (in)

## LTC1536CS8
designator U?
Precision Triple Supply Monitor for PCI Application, 8-pin SOIC (S8-8), 0 to 70 degC; Manufacturer: Linear Technology; PartNumber: LTC1536CS8; Number of Supplies(#): 3; DatasheetVersion: Rev. A; PackageVersion: Rev. G, 03/2012; PackageReference: S8-8; PackageDescription: 8-Pin Plastic Small Outline (Narrow .150 Inch), Body 4.9 x 3.9 mm, Pitch 1.27 mm; Supplier 1: Digi-Key; Supplier Part Number 1: LTC1536CS8-ND; Supplier 2: Newark; Supplier Part Number 2: 56M1832; RoHS: FALSE; Mounting Technology: Surface Mount; ComponentLink1Description: Manufacturer URL; ComponentLink1URL: http://www.linear.com/; ComponentLink2Description: Datasheet; ComponentLink2URL: http://cds.linear.com/docs/en/datasheet/1536fa.pdf; ComponentLink3Description: Package Specification; ComponentLink3URL: http://cds.linear.com/docs/en/packaging/05081610_G_SO8.pdf
footprint LT-S8-8_N (SOIC, 8-Leads, Body 5x4mm, Pitch 1.27mm, IPC Medium Density)
footprint LT-S8-8_L (SOIC, 8-Leads, Body 5x4mm, Pitch 1.27mm, IPC High Density)
footprint LT-S8-8_M (SOIC, 8-Leads, Body 5x4mm, Pitch 1.27mm, IPC Low Density)
pins: 1 VCC3 (power), 2 VCC5 (power), 3 VCCA (in), 4 GND (power) "Ground.", 5 RST (out), 6 ~{RST} (oc), 7 ~{SRST} (oc), 8 ~{PBR} (in)

## LTC1536CS8#PBF
designator U?
Precision Triple Supply Monitor for PCI Application, 8-pin SOIC (S8-8), 0 to 70 degC, Pb-Free; Manufacturer: Linear Technology; PartNumber: LTC1536CS8#PBF; Number of Supplies(#): 3; DatasheetVersion: Rev. A; PackageVersion: Rev. G, 03/2012; PackageReference: S8-8; PackageDescription: 8-Pin Plastic Small Outline (Narrow .150 Inch), Body 4.9 x 3.9 mm, Pitch 1.27 mm; Supplier 1: Digi-Key; Supplier Part Number 1: LTC1536CS8#PBF-ND; Supplier 2: Newark; Supplier Part Number 2: 56M1833; RoHS: TRUE; Mounting Technology: Surface Mount; ComponentLink1Description: Manufacturer URL; ComponentLink1URL: http://www.linear.com/; ComponentLink2Description: Datasheet; ComponentLink2URL: http://cds.linear.com/docs/en/datasheet/1536fa.pdf; ComponentLink3Description: Package Specification; ComponentLink3URL: http://cds.linear.com/docs/en/packaging/05081610_G_SO8.pdf
footprint LT-S8-8_N (SOIC, 8-Leads, Body 5x4mm, Pitch 1.27mm, IPC Medium Density)
footprint LT-S8-8_L (SOIC, 8-Leads, Body 5x4mm, Pitch 1.27mm, IPC High Density)
footprint LT-S8-8_M (SOIC, 8-Leads, Body 5x4mm, Pitch 1.27mm, IPC Low Density)
pins: 1 VCC3 (power), 2 VCC5 (power), 3 VCCA (in), 4 GND (power) "Ground.", 5 RST (out), 6 ~{RST} (oc), 7 ~{SRST} (oc), 8 ~{PBR} (in)

## LTC1536CS8#TR
designator U?
Precision Triple Supply Monitor for PCI Application, 8-pin SOIC (S8-8), 0 to 70 degC, Tape and Reel; Manufacturer: Linear Technology; PartNumber: LTC1536CS8#TR; Number of Supplies(#): 3; DatasheetVersion: Rev. A; PackageVersion: Rev. G, 03/2012; PackageReference: S8-8; PackageDescription: 8-Pin Plastic Small Outline (Narrow .150 Inch), Body 4.9 x 3.9 mm, Pitch 1.27 mm; Supplier 1: Digi-Key; Supplier Part Number 1: LTC1536CS8#TR-ND; Packing: Tape and Reel; RoHS: FALSE; Mounting Technology: Surface Mount; ComponentLink1Description: Manufacturer URL; ComponentLink1URL: http://www.linear.com/; ComponentLink2Description: Datasheet; ComponentLink2URL: http://cds.linear.com/docs/en/datasheet/1536fa.pdf; ComponentLink3Description: Package Specification; ComponentLink3URL: http://cds.linear.com/docs/en/packaging/05081610_G_SO8.pdf
footprint LT-S8-8_N (SOIC, 8-Leads, Body 5x4mm, Pitch 1.27mm, IPC Medium Density)
footprint LT-S8-8_L (SOIC, 8-Leads, Body 5x4mm, Pitch 1.27mm, IPC High Density)
footprint LT-S8-8_M (SOIC, 8-Leads, Body 5x4mm, Pitch 1.27mm, IPC Low Density)
pins: 1 VCC3 (power), 2 VCC5 (power), 3 VCCA (in), 4 GND (power) "Ground.", 5 RST (out), 6 ~{RST} (oc), 7 ~{SRST} (oc), 8 ~{PBR} (in)

## LTC1536CS8#TRPBF
designator U?
Precision Triple Supply Monitor for PCI Application, 8-pin SOIC (S8-8), 0 to 70 degC, Pb-Free, Tape and Reel; Manufacturer: Linear Technology; PartNumber: LTC1536CS8#TRPBF; Number of Supplies(#): 3; DatasheetVersion: Rev. A; PackageVersion: Rev. G, 03/2012; PackageReference: S8-8; PackageDescription: 8-Pin Plastic Small Outline (Narrow .150 Inch), Body 4.9 x 3.9 mm, Pitch 1.27 mm; Supplier 1: Digi-Key; Supplier Part Number 1: LTC1536CS8#TRPBF-ND; Supplier 2: Newark; Supplier Part Number 2: 56M1835; Packing: Tape and Reel; RoHS: TRUE; Mounting Technology: Surface Mount; ComponentLink1Description: Manufacturer URL; ComponentLink1URL: http://www.linear.com/; ComponentLink2Description: Datasheet; ComponentLink2URL: http://cds.linear.com/docs/en/datasheet/1536fa.pdf; ComponentLink3Description: Package Specification; ComponentLink3URL: http://cds.linear.com/docs/en/packaging/05081610_G_SO8.pdf
footprint LT-S8-8_N (SOIC, 8-Leads, Body 5x4mm, Pitch 1.27mm, IPC Medium Density)
footprint LT-S8-8_L (SOIC, 8-Leads, Body 5x4mm, Pitch 1.27mm, IPC High Density)
footprint LT-S8-8_M (SOIC, 8-Leads, Body 5x4mm, Pitch 1.27mm, IPC Low Density)
pins: 1 VCC3 (power), 2 VCC5 (power), 3 VCCA (in), 4 GND (power) "Ground.", 5 RST (out), 6 ~{RST} (oc), 7 ~{SRST} (oc), 8 ~{PBR} (in)

## LTC1536IS8
designator U?
Precision Triple Supply Monitor for PCI Application, 8-pin SOIC (S8-8), -40 to 85 degC; Manufacturer: Linear Technology; PartNumber: LTC1536IS8; Number of Supplies(#): 3; DatasheetVersion: Rev. A; PackageVersion: Rev. G, 03/2012; PackageReference: S8-8; PackageDescription: 8-Pin Plastic Small Outline (Narrow .150 Inch), Body 4.9 x 3.9 mm, Pitch 1.27 mm; Supplier 1: Digi-Key; Supplier Part Number 1: LTC1536IS8-ND; Supplier 2: Newark; Supplier Part Number 2: 56M1836; RoHS: FALSE; Mounting Technology: Surface Mount; ComponentLink1Description: Manufacturer URL; ComponentLink1URL: http://www.linear.com/; ComponentLink2Description: Datasheet; ComponentLink2URL: http://cds.linear.com/docs/en/datasheet/1536fa.pdf; ComponentLink3Description: Package Specification; ComponentLink3URL: http://cds.linear.com/docs/en/packaging/05081610_G_SO8.pdf
footprint LT-S8-8_N (SOIC, 8-Leads, Body 5x4mm, Pitch 1.27mm, IPC Medium Density)
footprint LT-S8-8_L (SOIC, 8-Leads, Body 5x4mm, Pitch 1.27mm, IPC High Density)
footprint LT-S8-8_M (SOIC, 8-Leads, Body 5x4mm, Pitch 1.27mm, IPC Low Density)
pins: 1 VCC3 (power), 2 VCC5 (power), 3 VCCA (in), 4 GND (power) "Ground.", 5 RST (out), 6 ~{RST} (oc), 7 ~{SRST} (oc), 8 ~{PBR} (in)

## LTC1536IS8#PBF
designator U?
Precision Triple Supply Monitor for PCI Application, 8-pin SOIC (S8-8), -40 to 85 degC, Pb-Free; Manufacturer: Linear Technology; PartNumber: LTC1536IS8#PBF; Number of Supplies(#): 3; DatasheetVersion: Rev. A; PackageVersion: Rev. G, 03/2012; PackageReference: S8-8; PackageDescription: 8-Pin Plastic Small Outline (Narrow .150 Inch), Body 4.9 x 3.9 mm, Pitch 1.27 mm; Supplier 1: Digi-Key; Supplier Part Number 1: LTC1536IS8#PBF-ND; RoHS: TRUE; Mounting Technology: Surface Mount; ComponentLink1Description: Manufacturer URL; ComponentLink1URL: http://www.linear.com/; ComponentLink2Description: Datasheet; ComponentLink2URL: http://cds.linear.com/docs/en/datasheet/1536fa.pdf; ComponentLink3Description: Package Specification; ComponentLink3URL: http://cds.linear.com/docs/en/packaging/05081610_G_SO8.pdf
footprint LT-S8-8_N (SOIC, 8-Leads, Body 5x4mm, Pitch 1.27mm, IPC Medium Density)
footprint LT-S8-8_L (SOIC, 8-Leads, Body 5x4mm, Pitch 1.27mm, IPC High Density)
footprint LT-S8-8_M (SOIC, 8-Leads, Body 5x4mm, Pitch 1.27mm, IPC Low Density)
pins: 1 VCC3 (power), 2 VCC5 (power), 3 VCCA (in), 4 GND (power) "Ground.", 5 RST (out), 6 ~{RST} (oc), 7 ~{SRST} (oc), 8 ~{PBR} (in)

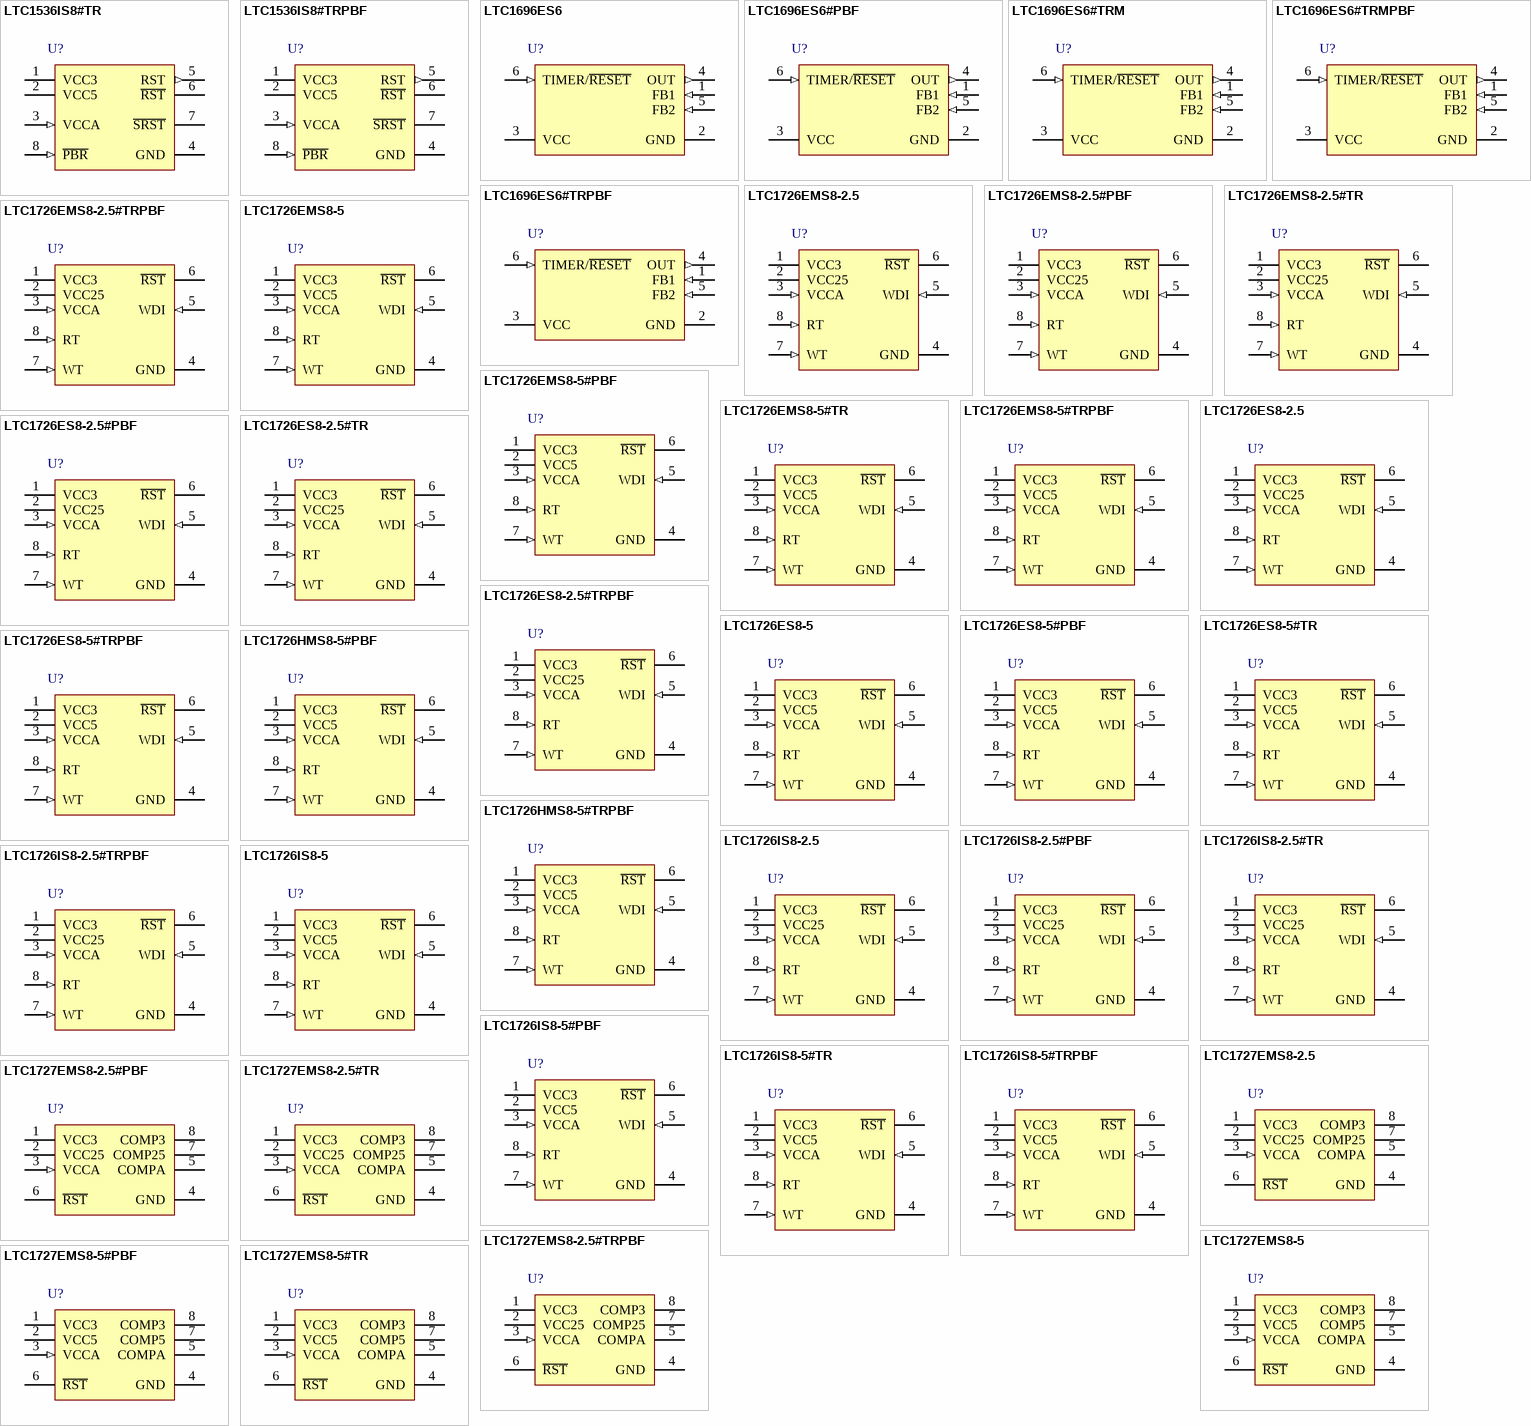
[diagram p6: symbols LTC1536IS8#TR to LTC1727EMS8-5#TR]

## LTC1536IS8#TR
designator U?
Precision Triple Supply Monitor for PCI Application, 8-pin SOIC (S8-8), -40 to 85 degC, Tape and Reel; Manufacturer: Linear Technology; PartNumber: LTC1536IS8#TR; Number of Supplies(#): 3; DatasheetVersion: Rev. A; PackageVersion: Rev. G, 03/2012; PackageReference: S8-8; PackageDescription: 8-Pin Plastic Small Outline (Narrow .150 Inch), Body 4.9 x 3.9 mm, Pitch 1.27 mm; Supplier 1: Digi-Key; Supplier Part Number 1: LTC1536IS8#TR-ND; Packing: Tape and Reel; RoHS: FALSE; Mounting Technology: Surface Mount; ComponentLink1Description: Manufacturer URL; ComponentLink1URL: http://www.linear.com/; ComponentLink2Description: Datasheet; ComponentLink2URL: http://cds.linear.com/docs/en/datasheet/1536fa.pdf; ComponentLink3Description: Package Specification; ComponentLink3URL: http://cds.linear.com/docs/en/packaging/05081610_G_SO8.pdf
footprint LT-S8-8_N (SOIC, 8-Leads, Body 5x4mm, Pitch 1.27mm, IPC Medium Density)
footprint LT-S8-8_L (SOIC, 8-Leads, Body 5x4mm, Pitch 1.27mm, IPC High Density)
footprint LT-S8-8_M (SOIC, 8-Leads, Body 5x4mm, Pitch 1.27mm, IPC Low Density)
pins: 1 VCC3 (power), 2 VCC5 (power), 3 VCCA (in), 4 GND (power) "Ground.", 5 RST (out), 6 ~{RST} (oc), 7 ~{SRST} (oc), 8 ~{PBR} (in)

## LTC1536IS8#TRPBF
designator U?
Precision Triple Supply Monitor for PCI Application, 8-pin SOIC (S8-8), -40 to 85 degC, Pb-Free, Tape and Reel; Manufacturer: Linear Technology; PartNumber: LTC1536IS8#TRPBF; Number of Supplies(#): 3; DatasheetVersion: Rev. A; PackageVersion: Rev. G, 03/2012; PackageReference: S8-8; PackageDescription: 8-Pin Plastic Small Outline (Narrow .150 Inch), Body 4.9 x 3.9 mm, Pitch 1.27 mm; Supplier 1: Digi-Key; Supplier Part Number 1: LTC1536IS8#TRPBF-ND; Packing: Tape and Reel; RoHS: TRUE; Mounting Technology: Surface Mount; ComponentLink1Description: Manufacturer URL; ComponentLink1URL: http://www.linear.com/; ComponentLink2Description: Datasheet; ComponentLink2URL: http://cds.linear.com/docs/en/datasheet/1536fa.pdf; ComponentLink3Description: Package Specification; ComponentLink3URL: http://cds.linear.com/docs/en/packaging/05081610_G_SO8.pdf
footprint LT-S8-8_N (SOIC, 8-Leads, Body 5x4mm, Pitch 1.27mm, IPC Medium Density)
footprint LT-S8-8_L (SOIC, 8-Leads, Body 5x4mm, Pitch 1.27mm, IPC High Density)
footprint LT-S8-8_M (SOIC, 8-Leads, Body 5x4mm, Pitch 1.27mm, IPC Low Density)
pins: 1 VCC3 (power), 2 VCC5 (power), 3 VCCA (in), 4 GND (power) "Ground.", 5 RST (out), 6 ~{RST} (oc), 7 ~{SRST} (oc), 8 ~{PBR} (in)

## LTC1696ES6
designator U?
Overvoltage Protection Controller, 6-pin SOT23 (S6-6), -40 to 85 degC; Manufacturer: Linear Technology; PartNumber: LTC1696ES6; Number of Supplies(#): 1; PackageVersion: Jun-10; PackageReference: S6-6; PackageDescription: 6-Pin Plastic TSOT-23, Body 2.9 x 1.63 mm, Pitch 0.95 mm; RoHS: FALSE; Mounting Technology: Surface Mount; Code_JEDEC: MO-193; ComponentLink1Description: Manufacturer URL; ComponentLink1URL: http://www.linear.com/; ComponentLink2Description: Datasheet; ComponentLink2URL: http://cds.linear.com/docs/en/datasheet/1696f.pdf; ComponentLink3Description: Package Specification; ComponentLink3URL: http://cds.linear.com/docs/en/packaging/SOT_6_05-08-1636.pdf
footprint LT-S6-6-TSOT-23_N (SOT23, 6-Leads, Body 2.9x1.75mm, Pitch 0.95mm, IPC Medium Density)
footprint LT-S6-6-TSOT-23_L (SOT23, 6-Leads, Body 2.9x1.75mm, Pitch 0.95mm, IPC High Density)
footprint LT-S6-6-TSOT-23_M (SOT23, 6-Leads, Body 2.9x1.75mm, Pitch 0.95mm, IPC Low Density)
pins: 1 FB1 (in) "First Feedback Input. FB1 monitors and senses the first supply output voltage through an external resistor divider. This voltage is then compared with an internal reference voltage of 0.88V, which sets the threshold for an (See Datasheet)", 2 GND (power) "Power Ground. Return path for all device currents.", 3 VCC (power) "Power Supply. The pin is connected separately from the power supply output that the chip is monitoring. Its input range is from 2.7V to 27V. The quiescent current is typically 100uA in standby mode when the device is (See Datasheet)", 4 OUT (out) "Output Current Limit Driver. Capable of delivering continuous current, typically 80mA, at high supplies. The output current decreases with lower supply voltage. This pin directly drives the SCR crowbar at high supply voltage.(See Datasheet)", 5 FB2 (in) "Second Feedback Input. FB2 monitors and senses the second supply output voltage through an external resistor divider. This voltage is then compared with an internal reference voltage of 0.88V, which sets the threshold for an (See Datasheet)", 6 TIMER/~{RESET} (in) "Glitch Filter Timer Capacitor, Reset and External Trigger Input. The external capacitor connected to this pin programs the internal glitch filter time delay. The internal current source used to charge the timer capacitor is (See Datasheet)"

## LTC1696ES6#PBF
designator U?
Overvoltage Protection Controller, 6-pin SOT23 (S6-6), -40 to 85 degC, Pb-Free; Manufacturer: Linear Technology; PartNumber: LTC1696ES6#PBF; Number of Supplies(#): 1; PackageVersion: Jun-10; PackageReference: S6-6; PackageDescription: 6-Pin Plastic TSOT-23, Body 2.9 x 1.63 mm, Pitch 0.95 mm; Supplier 1: Farnell; Supplier Part Number 1: 2115937; Supplier 2: Farnell; Supplier Part Number 2: 1531695; Supplier 3: Newark; Supplier Part Number 3: 66M7843; RoHS: TRUE; Mounting Technology: Surface Mount; Code_JEDEC: MO-193; ComponentLink1Description: Manufacturer URL; ComponentLink1URL: http://www.linear.com/; ComponentLink2Description: Datasheet; ComponentLink2URL: http://cds.linear.com/docs/en/datasheet/1696f.pdf; ComponentLink3Description: Package Specification; ComponentLink3URL: http://cds.linear.com/docs/en/packaging/SOT_6_05-08-1636.pdf
footprint LT-S6-6-TSOT-23_N (SOT23, 6-Leads, Body 2.9x1.75mm, Pitch 0.95mm, IPC Medium Density)
footprint LT-S6-6-TSOT-23_L (SOT23, 6-Leads, Body 2.9x1.75mm, Pitch 0.95mm, IPC High Density)
footprint LT-S6-6-TSOT-23_M (SOT23, 6-Leads, Body 2.9x1.75mm, Pitch 0.95mm, IPC Low Density)
pins: 1 FB1 (in) "First Feedback Input. FB1 monitors and senses the first supply output voltage through an external resistor divider. This voltage is then compared with an internal reference voltage of 0.88V, which sets the threshold for an (See Datasheet)", 2 GND (power) "Power Ground. Return path for all device currents.", 3 VCC (power) "Power Supply. The pin is connected separately from the power supply output that the chip is monitoring. Its input range is from 2.7V to 27V. The quiescent current is typically 100uA in standby mode when the device is (See Datasheet)", 4 OUT (out) "Output Current Limit Driver. Capable of delivering continuous current, typically 80mA, at high supplies. The output current decreases with lower supply voltage. This pin directly drives the SCR crowbar at high supply voltage.(See Datasheet)", 5 FB2 (in) "Second Feedback Input. FB2 monitors and senses the second supply output voltage through an external resistor divider. This voltage is then compared with an internal reference voltage of 0.88V, which sets the threshold for an (See Datasheet)", 6 TIMER/~{RESET} (in) "Glitch Filter Timer Capacitor, Reset and External Trigger Input. The external capacitor connected to this pin programs the internal glitch filter time delay. The internal current source used to charge the timer capacitor is (See Datasheet)"